# Altium footprint library Mux 16Ch 74HC4067 Module.PcbLib: 2 footprints
Each footprint in its own frame and in the unit in brackets; x right, y up, seen from the top. Pads: shape width x height; smd on the part's side, far side on the other; paste and mask are expansions set on the pad; w line width, h text height; cw(c..) or ccw(c..) is an arc to the next point about the centre after c.
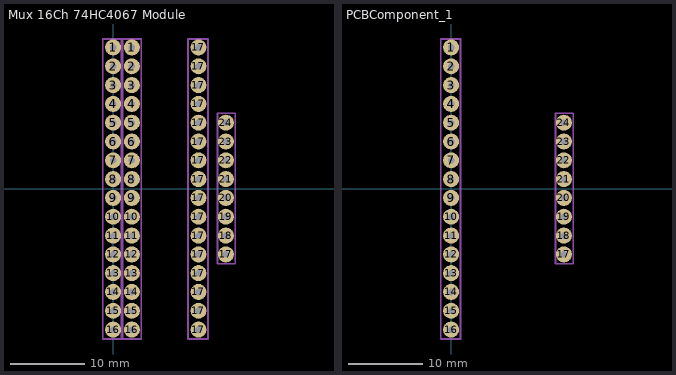
[diagram p0: the footprints below, top view; thin cyan lines are the x and y axes]

## Mux 16Ch 74HC4067 Module [mil]
pads (56):
  round 85 hole 35 mask+4: 1(0,750) 1(100,750) 2(0,650) 2(100,650) 3(0,550) 3(100,550) 4(0,450) 4(100,450) 5(0,350) 5(100,350) 6(0,250) 6(100,250) 7(0,150) 7(100,150) 8(0,50) 8(100,50) 9(0,-50) 9(100,-50) 10(0,-150) 10(100,-150) 11(0,-250) 11(100,-250) 12(0,-350) 12(100,-350) 13(0,-450) 13(100,-450) 14(0,-550) 14(100,-550) 15(0,-650) 15(100,-650) 16(0,-750) 16(100,-750) 17(454.33,-750) 17(454.33,-650) 17(454.33,-550) 17(454.33,-450) 17(454.33,-350) 17(454.33,-250) 17(454.33,-150) 17(454.33,-50) 17(454.33,50) 17(454.33,150) 17(454.33,250) 17(454.33,350) 17(454.33,450) 17(454.33,550) 17(454.33,650) 17(454.33,750) 17(600,-350) 18(600,-250) 19(600,-150) 20(600,-50) 21(600,50) 22(600,150) 23(600,250) 24(600,350)
Mechanical 1:
  lines w10: -55,-800 50,-800 50,795 -55,795 -55,-800 ; 45,-800 150,-800 150,795 45,795 45,-800 ; 399.33,-800 504.33,-800 504.33,795 399.33,795 399.33,-800 ; 555,-400 650,-400 650,400 555,400 555,-400

## PCBComponent_1 [mil]
pads (24):
  round 85 hole 35 mask+4: 1(0,750) 2(0,650) 3(0,550) 4(0,450) 5(0,350) 6(0,250) 7(0,150) 8(0,50) 9(0,-50) 10(0,-150) 11(0,-250) 12(0,-350) 13(0,-450) 14(0,-550) 15(0,-650) 16(0,-750) 17(600,-350) 18(600,-250) 19(600,-150) 20(600,-50) 21(600,50) 22(600,150) 23(600,250) 24(600,350)
Mechanical 1:
  lines w10: -55,-800 50,-800 50,795 -55,795 -55,-800 ; 555,-400 650,-400 650,400 555,400 555,-400